# Altium schematic symbol library STM8_DevBoard.SchLib: 6 symbols
Pins are listed as number, name and electrical type; pins without a type are passive.

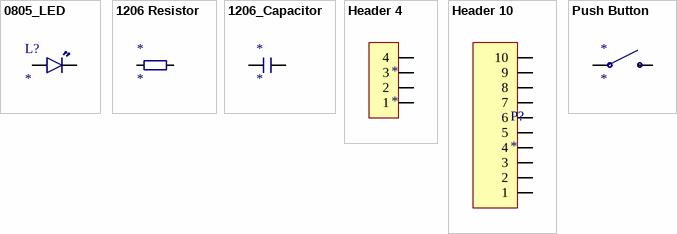
[diagram p0: symbols 0805_LED to Push Button]

## 0805_LED
designator L?
footprint 0805_LED
pins: L_1, L_2

## 1206 Resistor
designator *
footprint 1206 Resistor
pins: 1, 2

## 1206_Capacitor
designator *
footprint 1206_Capacitor
pins: 1, 2

## Header 4
designator *
footprint Header 4
pins: 1, 2, 3, 4

## Header 10
designator P?
footprint Header 10
pins: 1, 2, 3, 4, 5, 6, 7, 8, 9, 10

## Push Button
designator *
footprint NRST
pins: 1, 2